# Altium footprint library DO-214AB v2.PcbLib: 1 footprints
Each footprint in its own frame and in the unit in brackets; x right, y up, seen from the top. Pads: shape width x height; smd on the part's side, far side on the other; paste and mask are expansions set on the pad; w line width, h text height; cw(c..) or ccw(c..) is an arc to the next point about the centre after c.
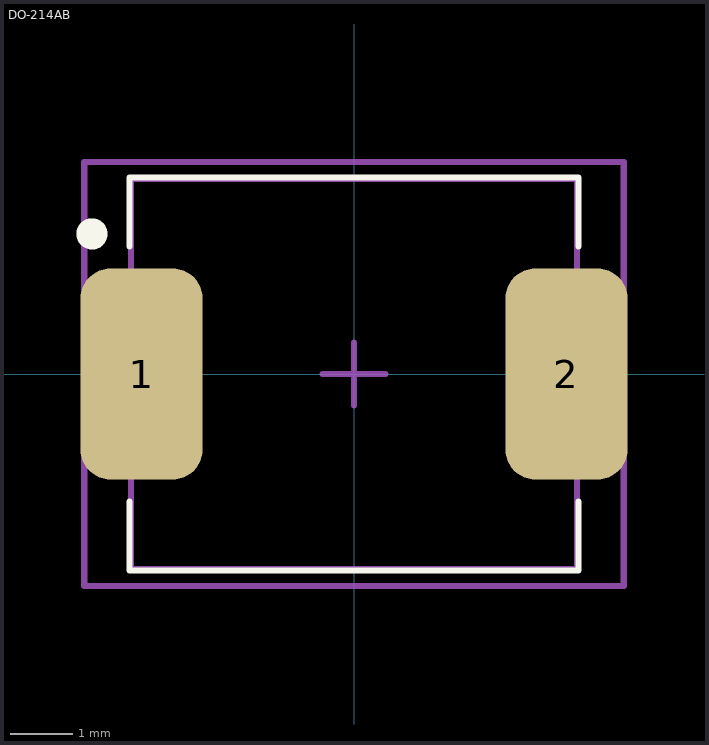
[diagram p0: the footprint, top view; thin cyan lines are the x and y axes]

## DO-214AB [mm] "Molded Diode, 2-Leads, Body 6.88x5.90mm, IPC Medium Density"
height 2.65
pads (2):
  rrect50% 1.96x3.39 smd: 1(-3.405,0) 2(3.405,0)
Top Overlay:
  circle w0.25: c-4.2,2.245 r0.125
  lines w0.1: -3.6,-2.045 -3.6,-3.15 3.6,-3.15 3.6,-2.045 ; -3.6,2.045 -3.6,3.15 3.6,3.15 3.6,2.045
Top 3D Body:
  lines w0.1: -3.575,-3.125 -3.575,3.125 3.575,3.125 3.575,-3.125 -3.575,-3.125
  text "1" at -3.175,-0.254 h1
Top Courtyard:
  lines w0.1: -0.5,0 0.5,0 ; 0,-0.5 0,0.5 ; -4.325,-3.4 -4.325,3.4 4.325,3.4 4.325,-3.4 -4.325,-3.4
Top Designator (Mech29):
  text ".Designator" at 0.333,-4.998 h1
3D body "DO-214AB v2.step": height 2.65, standoff 0, extent -3.795,-3.125 3.795,3.125